# Altium footprint library Soldeer Station Footprints.PcbLib: 32 footprints (part 1 of 2)
Each footprint in its own frame and in the unit in brackets; x right, y up, seen from the top. Pads: shape width x height; smd on the part's side, far side on the other; paste and mask are expansions set on the pad; w line width, h text height; cw(c..) or ccw(c..) is an arc to the next point about the centre after c.
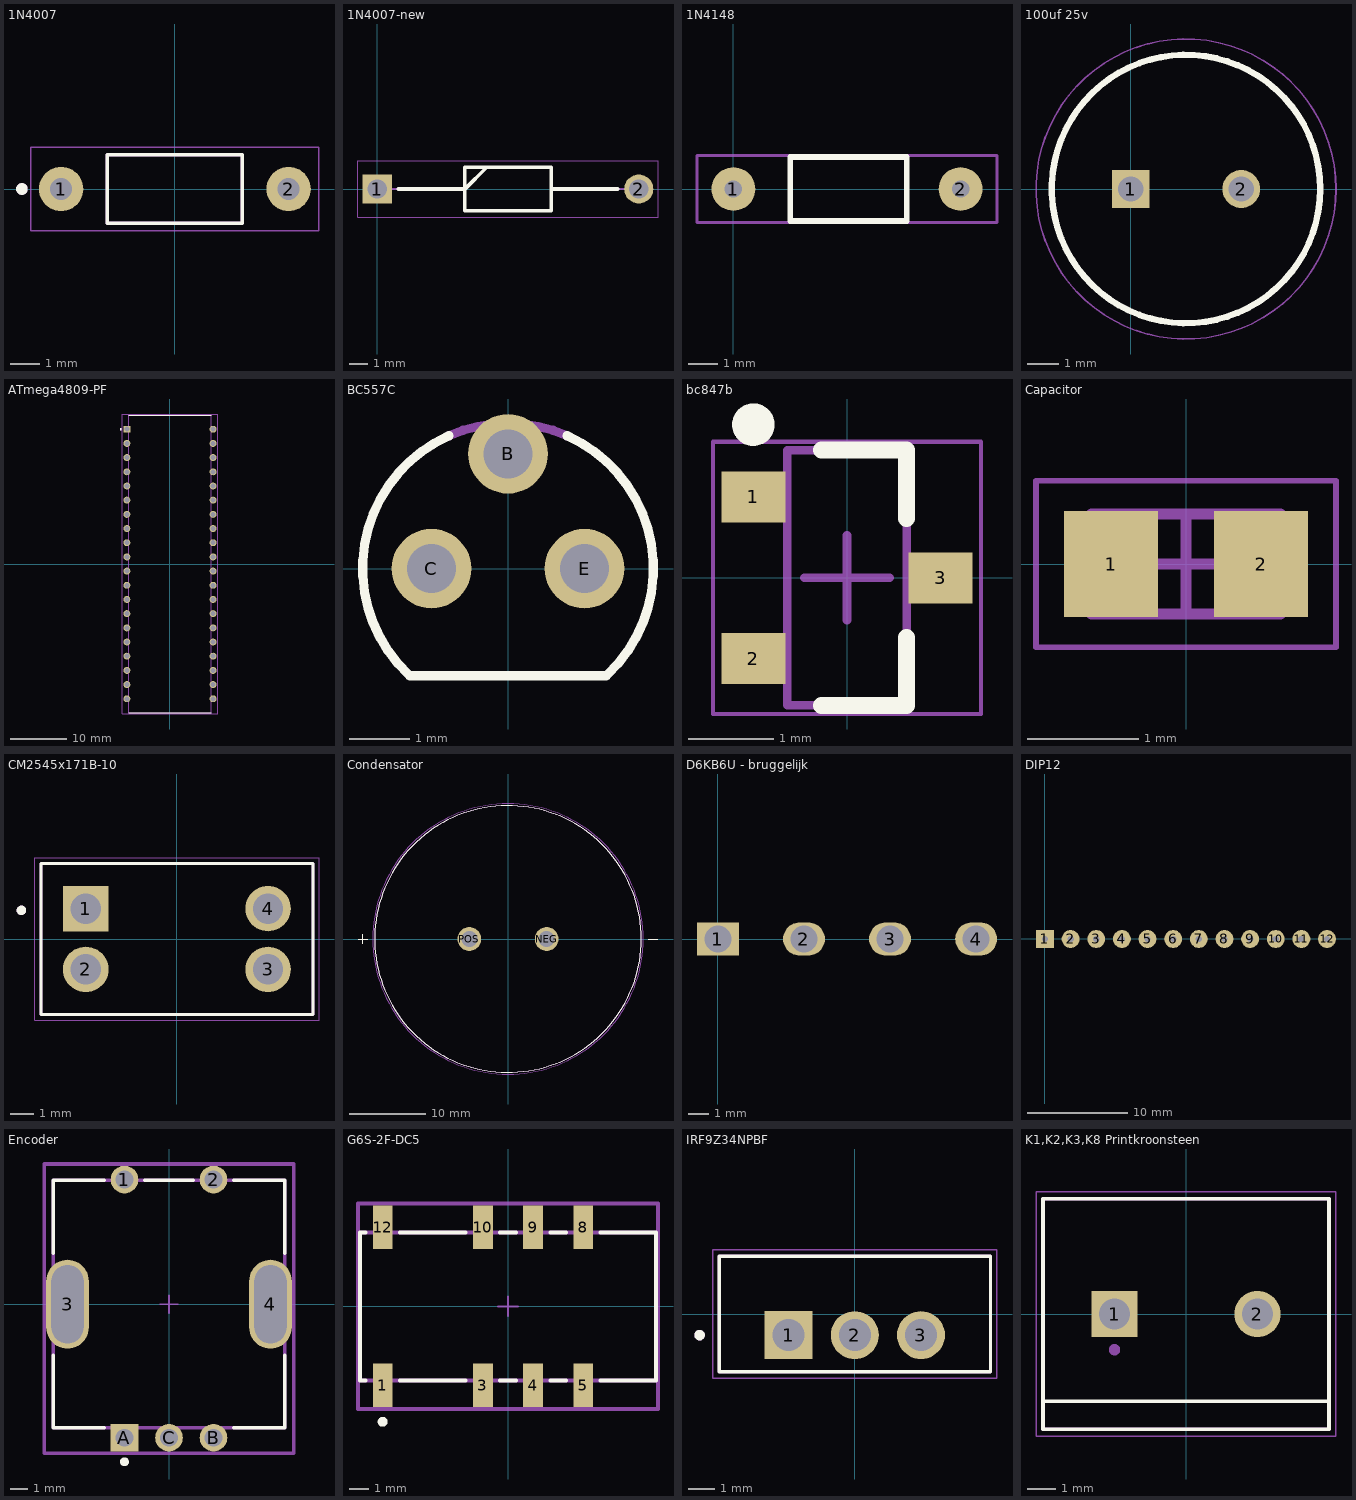
[diagram p0: the footprints below, top view; thin cyan lines are the x and y axes]

## 1N4007 [mil]
height 107.09
pads (2):
  round 60 hole 30: 1(-153.72,0) 2(153.72,0)
Top Overlay:
  circle w7.87: c-206.69,0 r3.94
  lines w5: -91.24,-46.46 91.24,-46.46 91.24,46.46 -91.24,46.46 -91.24,-46.46
Mechanical 13:
  circle w7.87: c-206.69,0 r3.94
  lines w5: -91.24,-46.46 91.24,-46.46 91.24,46.46 -91.24,46.46 -91.24,-46.46
Mechanical 15:
  lines w1.97: -194.86,-56.3 -194.86,56.3 194.86,56.3 194.86,-56.3 -194.86,-56.3
3D body "step_temp.STEP": height 106, standoff -857, extent -215.5,-53 215.5,53

## 1N4007-new [mm]
pads (2):
  rect 1.575x1.575 hole 1.05: 1(0,0)
  round 1.575 hole 1.05: 2(14.1,0)
Top Overlay:
  lines w0.2: 1.138,0 4.725,0 5.9,1.175 ; 9.375,0 12.962,0 ; 4.725,-1.175 4.725,1.175 9.375,1.175 9.375,-1.175 4.725,-1.175
Mechanical 13:
  lines w0.1: 0,0 4.725,0 5.9,1.175 ; 9.375,0 14.1,0 ; 4.725,-1.175 4.725,1.175 9.375,1.175 9.375,-1.175 4.725,-1.175
Mechanical 15:
  lines w0.05: -1.038,-1.525 -1.038,1.525 15.137,1.525 15.137,-1.525 -1.038,-1.525
3D body "1N4007-E3_73.stp": height 2.7, standoff -2.7, extent -0.43,-1.34 14.48,1.34

## 1N4148 [mm]
pads (2):
  round 1.5 hole 0.6: 1(0,0) 2(7.8,0)
Top Overlay:
  lines w0.2: 1.95,-1.1 1.95,1.1 5.95,1.1 5.95,-1.1 1.95,-1.1
Mechanical 15:
  lines w0.1: -1.25,-1.15 -1.25,1.15 9.05,1.15 9.05,-1.15 -1.25,-1.15
3D body: height 0.25, standoff 0, extent -2.407,-2.54 10.293,2.54

## 100uf 25v [mm]
pads (2):
  rect 1.2x1.2 hole 0.8: 1(0,0)
  round 1.2 hole 0.8: 2(3.5,0)
Top Overlay:
  circle w0.2: c1.75,0 r4.25
Mechanical 13:
  circle w0.1: c1.75,0 r4.25
Mechanical 15:
  circle w0.05: c1.75,0 r4.75
3D body "MAL214231101E3.stp": height 13, standoff -10, extent -2.488,-4.247 6,4.247

## ATmega4809-PF [mm]
pads (40):
  rect 1.24x1.24 hole 0.89: 1(-7.715,24.13)
  round 1.24 hole 0.89: 2(-7.715,21.59) 3(-7.715,19.05) 4(-7.715,16.51) 5(-7.715,13.97) 6(-7.715,11.43) 7(-7.715,8.89) 8(-7.715,6.35) 9(-7.715,3.81) 10(-7.715,1.27) 11(-7.715,-1.27) 12(-7.715,-3.81) 13(-7.715,-6.35) 14(-7.715,-8.89) 15(-7.715,-11.43) 16(-7.715,-13.97) 17(-7.715,-16.51) 18(-7.715,-19.05) 19(-7.715,-21.59) 20(-7.715,-24.13) 21(7.715,-24.13) 22(7.715,-21.59) 23(7.715,-19.05) 24(7.715,-16.51) 25(7.715,-13.97) 26(7.715,-11.43) 27(7.715,-8.89) 28(7.715,-6.35) 29(7.715,-3.81) 30(7.715,-1.27) 31(7.715,1.27) 32(7.715,3.81) 33(7.715,6.35) 34(7.715,8.89) 35(7.715,11.43) 36(7.715,13.97) 37(7.715,16.51) 38(7.715,19.05) 39(7.715,21.59) 40(7.715,24.13)
Top Overlay:
  circle w0.2: c-8.835,24.13 r0.1
  lines w0.127: -7.366,-26.607 7.366,-26.607 ; -7.366,26.607 7.366,26.607
Mechanical 13:
  circle w0.2: c-8.835,24.13 r0.1
  lines w0.127: -7.366,-26.607 7.366,-26.607 7.366,26.607 -7.366,26.607 -7.366,-26.607
Mechanical 15:
  lines w0.05: -8.585,-26.856 8.585,-26.856 8.585,26.856 -8.585,26.856 -8.585,-26.856
3D body "step_temp.STEP": height 2.03, standoff -5.71, extent -8.255,-26.137 8.255,26.137

## BC557C [mil]
pads (3):
  round 52 hole 32: B(0,75) C(-50,0) E(50,0)
Top Overlay:
  lines w6: -64.78,-69.48 cw(c0.01,0) -38.63,86.79 ; -64.21,-70 64.21,-70 ; 38.63,86.79 cw(c-0.01,0) 64.78,-69.48
Mechanical 13:
  lines w6: -38.64,86.79 cw(c0,0) 38.64,86.79
3D body "step_temp.STEP": height 304.72, standoff -65.35, extent -94.45,-60.35 94.45,94.49

## bc847b [mm] "SOT23, 3-Leads, Body 2.9x1.3 mm, Pitch 0.95 mm, IPC High Density"
height 1.1
pads (3):
  rect 0.75x0.6 smd: 1(-1.1,0.95) 2(-1.1,-0.95) 3(1.1,0)
Top Overlay:
  circle w0.25: c-1.1,1.8 r0.125
  lines w0.2: -0.3,-1.5 0.7,-1.5 0.7,-0.7 ; -0.3,1.5 0.7,1.5 0.7,0.7
Mechanical 13:
  lines w0.1: -0.7,-1.5 0.7,-1.5 0.7,1.5 -0.7,1.5 -0.7,-1.5
Mechanical 15:
  lines w0.05: -1.575,-1.6 1.575,-1.6 1.575,1.6 -1.575,1.6 -1.575,-1.6
  lines w0.1: -0.5,0 0.5,0 ; 0,-0.5 0,0.5
3D body: height 1.1, standoff 0.1, extent -0.7,-1.5 0.7,1.5

## Capacitor [mm] "Chip Capacitor, 2-Leads, Body 1.60x0.80mm, IPC High Density"
height 0.9
pads (2):
  rect 0.85x0.95 smd: 1(-0.675,0) 2(0.675,0)
Mechanical 13:
  lines w0.1: -0.85,-0.45 0.85,-0.45 0.85,0.45 -0.85,0.45 -0.85,-0.45
Mechanical 15:
  lines w0.05: -1.35,-0.75 1.35,-0.75 1.35,0.75 -1.35,0.75 -1.35,-0.75
  lines w0.1: -0.45,0 0.45,0 ; 0,-0.45 0,0.45
3D body: height 0.9, standoff 0, extent 0.5,-0.45 0.85,0.45
3D body: height 0.9, standoff 0, extent -0.85,-0.45 -0.5,0.45
3D body: height 0.9, standoff 0, extent -0.5,-0.45 0.5,0.45

## CM2545x171B-10 [mm]
pads (4):
  rect 1.905x1.905 hole 1.27: 1(-3.81,1.27)
  round 1.905 hole 1.27: 2(-3.81,-1.27) 3(3.81,-1.27) 4(3.81,1.27)
Top Overlay:
  circle w0.2: c-6.5,1.2 r0.1
  lines w0.127: -5.69,-3.15 5.69,-3.15 5.69,3.15 -5.69,3.15 -5.69,-3.15
Mechanical 13:
  circle w0.2: c-6.5,1.2 r0.1
  lines w0.127: -5.69,-3.15 5.69,-3.15 5.69,3.15 -5.69,3.15 -5.69,-3.15
Mechanical 15:
  lines w0.05: -5.94,-3.4 -5.94,3.4 5.94,3.4 5.94,-3.4 -5.94,-3.4
3D body "step_temp.STEP": height 9.5, standoff -3.68, extent -5.69,-3.15 5.69,3.15

## Condensator [mm]
pads (2):
  round 3.116 hole 2.1: NEG(5.08,0) POS(-5.08,0)
Top Overlay:
  circle w0.127: c0,0 r17.5
  lines w0.127: -19.685,0 -18.415,0 ; -19.05,-0.635 -19.05,0.635 ; 18.415,0 19.685,0
Mechanical 13:
  circle w0.127: c0,0 r17.5
  lines w0.127: -19.685,0 -18.415,0 ; -19.05,-0.635 -19.05,0.635 ; 18.415,0 19.685,0
Mechanical 15:
  circle w0.05: c0,0 r17.75

## D6KB6U - bruggelijk [mm]
pads (4):
  rect 2x1.6 hole 1.3: 1(0,0)
  oval 2x1.6 hole 1.3: 2(4.11,0) 3(8.22,0) 4(12.33,0)

## DIP12 [mil]
pads (12):
  rect 70x70 hole 25: 1(0,0)
  round 70 hole 25: 2(100,0) 3(200,0) 4(300,0) 5(400,0) 6(500,0) 7(600,0) 8(700,0) 9(800,0) 10(900,0) 11(1000,0) 12(1100,0)

## Encoder [mm]
pads (7):
  round 1.55 hole 1 paste-2539.97 mask+0: 1(-2.5,7) 2(2.5,7) B(2.5,-7.5) C(0,-7.5)
  rrect100% 2.4x5 hole 4.4 slot 1.8 at 0 deg paste-2539.97 mask+0: 3(-5.7,0) 4(5.7,0)
  rect 1.55x1.55 hole 1 paste-2539.97 mask+0: A(-2.5,-7.5)
Top Overlay:
  circle w0.25: c-2.5,-8.85 r0.125
  lines w0.2: -6.5,-2.875 -6.5,-6.95 -3.65,-6.95 ; -6.5,2.875 -6.5,6.95 -3.65,6.95 ; -1.35,6.95 1.35,6.95 ; 3.65,-6.95 6.5,-6.95 6.5,-2.875 ; 3.65,6.95 6.5,6.95 6.5,2.875
Top 3D Body:
  lines w0.2: -6.5,-6.95 -6.5,6.95 6.5,6.95 6.5,-6.95 -6.5,-6.95
Top Courtyard:
  lines w0.2: -7,-8.375 -7,7.875 7,7.875 7,-8.375 -7,-8.375
Top Assembly:
  lines w0.2: -7,-8.375 -7,7.875 7,7.875 7,-8.375 -7,-8.375
  text ".Designator" at 0,-0.062 h1
Top Component Center:
  lines w0.1: -0.5,0 0.5,0 ; 0,-0.5 0,0.5
3D body "Enc_Bourns_PEC11R-4230F-S0012_eec.STEP": height 0.25, standoff 0, extent -7,-8.375 7,7.875

## G6S-2F-DC5 [mm]
pads (8):
  rect 1x2.2 smd paste+0 mask+0: 1(-6.35,-4) 3(-1.27,-4) 4(1.27,-4) 5(3.81,-4) 8(3.81,4) 9(1.27,4) 10(-1.27,4) 12(-6.35,4)
Top Overlay:
  circle w0.25: c-6.35,-5.85 r0.125
  lines w0.2: -7.225,-3.75 -7.5,-3.75 -7.5,3.75 -7.225,3.75 ; -5.475,-3.75 -2.145,-3.75 ; -5.475,3.75 -2.145,3.75 ; -0.395,-3.75 0.395,-3.75 ; -0.395,3.75 0.395,3.75 ; 2.145,-3.75 2.935,-3.75 ; 2.145,3.75 2.935,3.75 ; 4.685,-3.75 7.5,-3.75 7.5,3.75 4.685,3.75
Top 3D Body:
  lines w0.2: -7.5,-3.75 -7.5,3.75 7.5,3.75 7.5,-3.75 -7.5,-3.75
Top Courtyard:
  lines w0.2: -7.6,-5.2 -7.6,5.2 7.6,5.2 7.6,-5.2 -7.6,-5.2
Top Assembly:
  lines w0.2: -7.6,-5.2 -7.6,5.2 7.6,5.2 7.6,-5.2 -7.6,-5.2
  text ".Designator" at 0,-0.001 h1
Top Component Center:
  lines w0.1: -0.5,0 0.5,0 ; 0,-0.5 0,0.5
3D body "Relay_Omron_G6S-2F-DC5_eec.STEP": height 0.25, standoff 0, extent -7.6,-5.2 7.6,5.2

## IRF9Z34NPBF [mm]
pads (3):
  rect 1.845x1.845 / inner round 1.845 / far side rect 1.845x1.845 hole 1.23: 1(-2.54,-0.81)
  round 1.845 hole 1.23: 2(0,-0.81) 3(2.54,-0.81)
Top Overlay:
  circle w0.2: c-5.957,-0.81 r0.1
  lines w0.127: -5.208,-2.222 -5.208,2.222 5.208,2.222 5.208,-2.222 -5.208,-2.222
Mechanical 13:
  circle w0.2: c-5.957,-0.81 r0.1
  lines w0.127: -5.208,-2.222 -5.208,2.222 5.208,2.222 5.208,-2.222 -5.208,-2.222
Mechanical 15:
  lines w0.05: -5.457,-2.472 5.457,-2.472 5.457,2.472 -5.457,2.472 -5.457,-2.472

## K1,K2,K3,K8 Printkroonsteen [mm]
pads (2):
  rect 1.65x1.65 / inner round 1.65 / far side rect 1.65x1.65 hole 1.1: 1(-2.54,0)
  round 1.65 hole 1.1: 2(2.54,0)
Top Overlay:
  lines w0.127: -5.08,-3.1 5.08,-3.1 ; -5.08,-3.1 -5.08,4.1 5.08,4.1 5.08,-3.1 ; -5.08,-3.1 -5.08,-4.1 5.08,-4.1 5.08,-3.1
Mechanical 13:
  circle w0.2: c-2.54,-1.27 r0.1
  lines w0.127: -5.08,-4.1 -5.08,4.1 5.08,4.1 5.08,-4.1 -5.08,-4.1
Mechanical 15:
  lines w0.05: -5.33,-4.35 -5.33,4.35 5.33,4.35 5.33,-4.35 -5.33,-4.35
3D body "step_temp.STEP": height 10, standoff -3.5, extent -5.68,-4.1 5.08,4.1